# EAGLE library part PCM2705 (library PCM2705)
PCM2705 USB Audio DAC
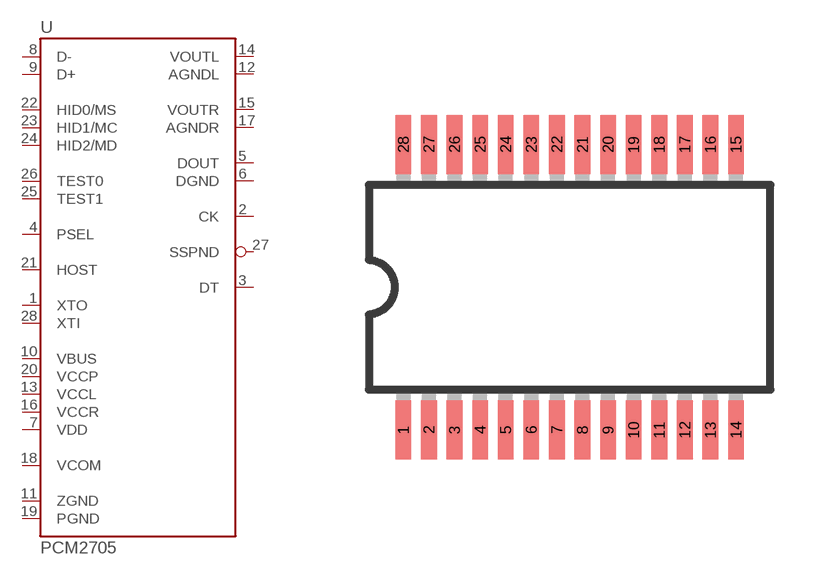
[diagram p0: symbol with the pads of SSOP28; footprint SSOP28]

Designator prefix -

## PCM2705  [SSOP28]
1  XTO  out
2  CK  out
3  DT
4  PSEL  in
5  DOUT  out
6  DGND  sup
7  VDD  pwr
8  D-
9  D+
10  VBUS  pwr
11  ZGND  sup
12  AGNDL  sup
13  VCCL  pwr
14  VOUTL  out
15  VOUTR  out
16  VCCR  pwr
17  AGNDR  sup
18  VCOM  pwr
19  PGND  sup
20  VCCP  pwr
21  HOST  in
22  HID0/MS  in
23  HID1/MC  in
24  HID2/MD  in
25  TEST1  in
26  TEST0  in
27  SSPND  out
28  XTI  in

## Footprint SSOP28 (pad centres in mm)
28-Lead Shrink Small Outline Package SSOP (RS-28) Source: http://www.analog.com/UploadedFiles/Data_Sheets/39677768AD7714_c.pdf
smd 0.4 x 1.5: 1 -4.225,-3.625; 2 -3.575,-3.625; 3 -2.925,-3.625; 4 -2.275,-3.625; 5 -1.625,-3.625; 6 -0.975,-3.625; 7 -0.325,-3.625; 8 0.325,-3.625; 9 0.975,-3.625; 10 1.625,-3.625; 11 2.275,-3.625; 12 2.925,-3.625; 13 3.575,-3.625; 14 4.225,-3.625; 15 4.225,3.625; 16 3.575,3.625; 17 2.925,3.625; 18 2.275,3.625; 19 1.625,3.625; 20 0.975,3.625; 21 0.325,3.625; 22 -0.325,3.625; 23 -0.975,3.625; 24 -1.625,3.625; 25 -2.275,3.625; 26 -2.925,3.625; 27 -3.575,3.625; 28 -4.225,3.625